# Altium footprint library Lib2408.PcbLib: 18 footprints (part 1 of 2)
Each footprint in its own frame and in the unit in brackets; x right, y up, seen from the top. Pads: shape width x height; smd on the part's side, far side on the other; paste and mask are expansions set on the pad; w line width, h text height; cw(c..) or ccw(c..) is an arc to the next point about the centre after c.
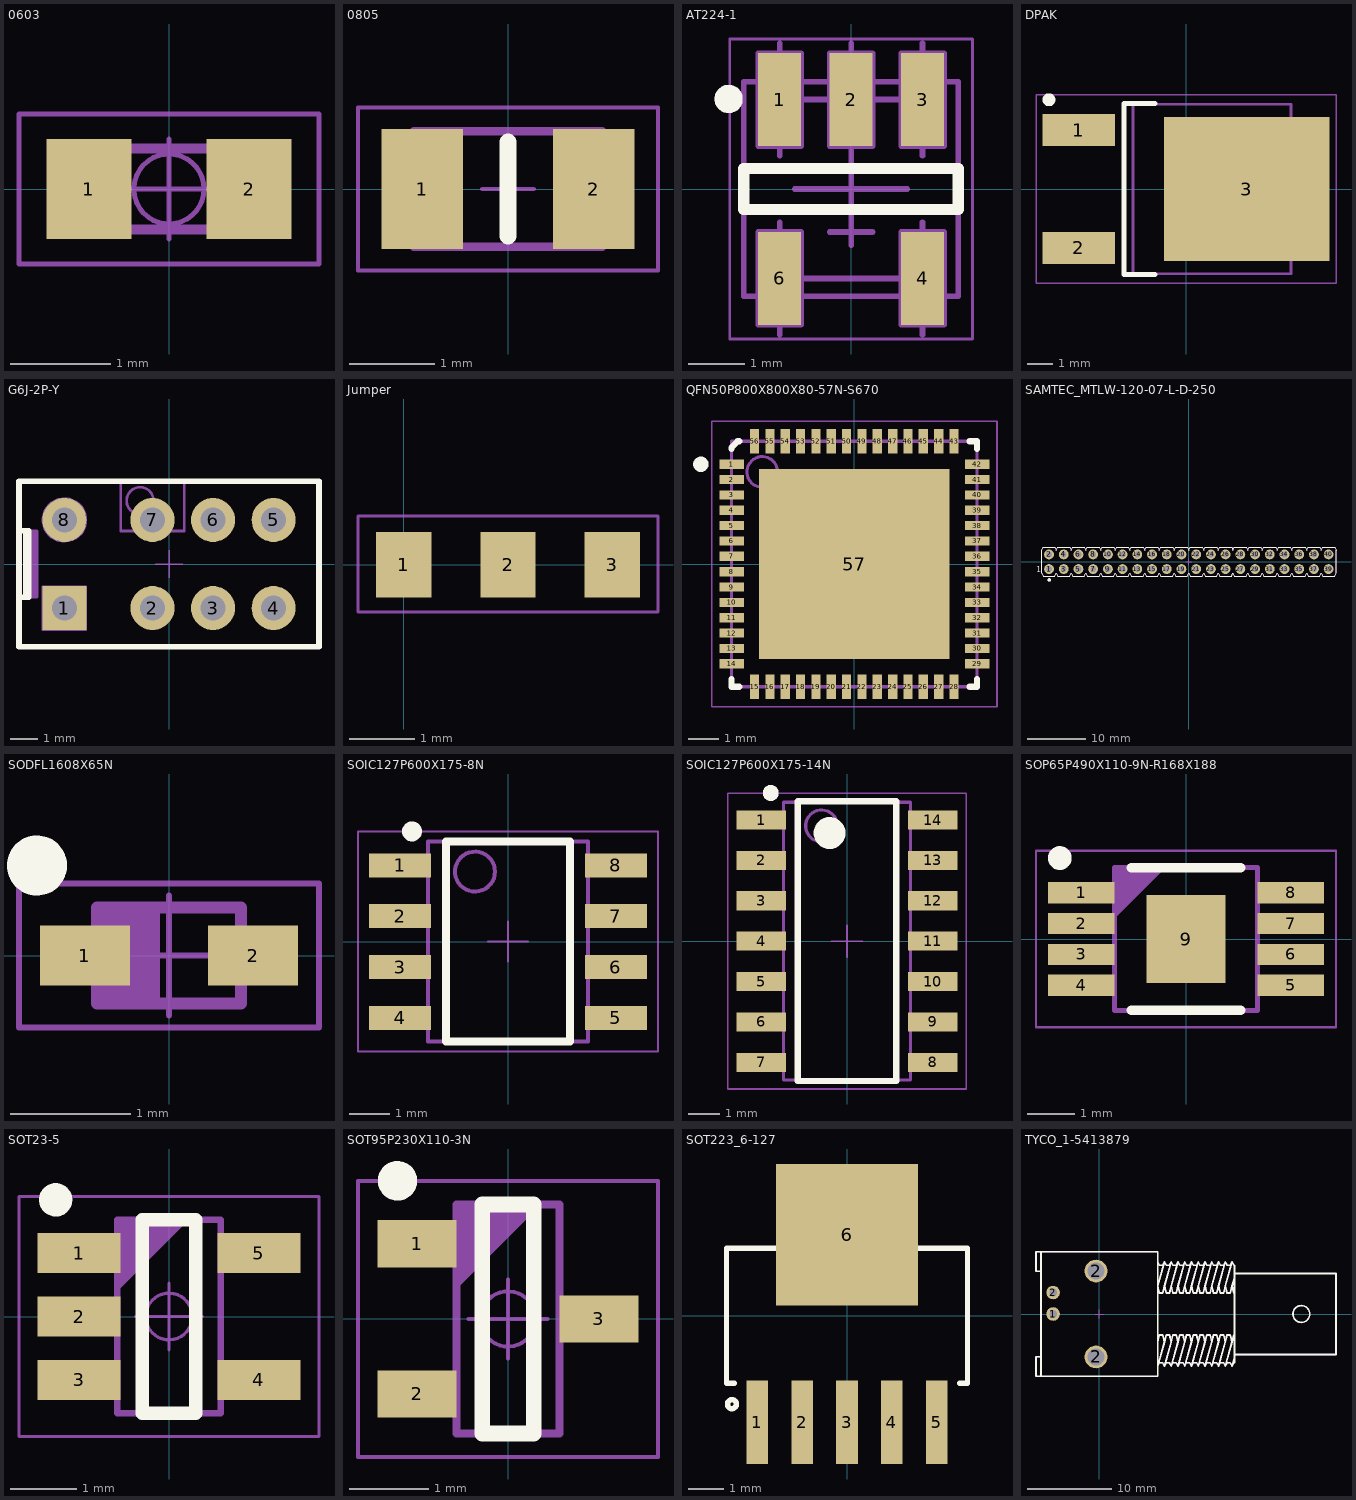
[diagram p0: the footprints below, top view; thin cyan lines are the x and y axes]

## 0603 [mm] "Chip Resistor, EIA 0603, Metric 1608, Body 1.6x0.8mm, IPC Medium Density"
height 0.6
pads (2):
  rect 0.85x1 smd: 1(-0.8,0) 2(0.8,0)
Mechanical 14:
  lines w0.1: -0.8,-0.405 -0.8,0.405 0.8,0.405 0.8,-0.405 -0.8,-0.405
Mechanical 15:
  circle w0.05: c0,0 r0.35
  lines w0.05: -0.5,0 0.5,0 ; 0,-0.5 0,0.5 ; -1.5,-0.75 -1.5,0.75 1.5,0.75 1.5,-0.75 -1.5,-0.75
3D body "RESC1608X60N.stp": height 0.6, standoff 0, extent -0.875,-0.475 0.875,0.475

## 0805 [mm] "Chip Resistor, EIA 0805, Metric 2012, Body 2.0x1.2mm, IPC Medium Density"
height 0.6
pads (2):
  rect 0.95x1.4 smd: 1(-1,0) 2(1,0)
Top Overlay:
  lines w0.2: 0,-0.55 0,0.55
Mechanical 14:
  lines w0.1: -1.1,0.675 -1.1,-0.675 1.1,-0.675 1.1,0.675 ; -1.1,0.675 1.1,0.675
Mechanical 15:
  lines w0.05: -0.3,0 0.3,0 ; 0,-0.3 0,0.3 ; -1.75,-0.95 -1.75,0.95 1.75,0.95 1.75,-0.95 -1.75,-0.95
3D body "RESC2012X60N.stp": height 0.6, standoff 0, extent -1.1,-0.675 1.1,0.675

## AT224-1 [mm] "MINI-CIRCUITS RF Transformer, Case AT224-1 - Body 3.81X3.81mm"
height 4.06
pads (5):
  rect 0.76x1.65 smd: 1(-1.27,1.59) 2(0,1.59) 3(1.27,1.59) 4(1.27,-1.59) 6(-1.27,-1.59)
Top Overlay:
  circle w0.25: c-2.175,1.6 r0.125
  lines w0.2: -1.905,-0.365 -1.905,0.365 1.905,0.365 1.905,-0.365 -1.905,-0.365
Mechanical 8:
  lines w0.1: -1.27,-2.59 -1.27,-1.59 ; -1.27,-0.59 -1.27,-1.59 ; -1.27,0.59 -1.27,1.59 ; -1.27,2.59 -1.27,1.59 ; -1,0 0,0 ; -0.38,-0.765 0.38,-0.765 ; 0,-1 0,0 ; 0,0.59 0,1.59 0,2.59 ; 0,1 0,0 ; 1,0 0,0 ; 1.27,-2.59 1.27,-1.59 1.27,-0.59 ; 1.27,0.59 1.27,1.59 1.27,2.59 ; 1.65,-1.59 -1.27,-1.59 ; 1.65,1.59 -1.27,1.59 ; -1.65,-2.415 -1.65,-0.765 -0.89,-0.765 -0.89,-2.415 -1.65,-2.415 ; -1.65,0.765 -1.65,2.415 -0.89,2.415 -0.89,0.765 -1.65,0.765 ; -0.38,0.765 -0.38,2.415 0.38,2.415 0.38,0.765 -0.38,0.765 ; 0.89,-2.415 0.89,-0.765 1.65,-0.765 1.65,-2.415 0.89,-2.415 ; 0.89,0.765 0.89,2.415 1.65,2.415 1.65,0.765 0.89,0.765
Mechanical 14:
  circle w0.25: c-2.175,1.6 r0.125
  lines w0.1: -1.625,-1.905 -1.625,-1.145 -0.915,-1.145 -0.915,-1.905 ; -1.625,1.905 -1.625,1.145 -0.915,1.145 -0.915,1.905 ; -0.355,1.905 -0.355,1.145 0.355,1.145 0.355,1.905 ; 0.915,-1.905 0.915,-1.145 1.625,-1.145 1.625,-1.905 ; 0.915,1.905 0.915,1.145 1.625,1.145 1.625,1.905 ; -1.905,-1.905 -1.905,1.905 1.905,1.905 1.905,-1.905 -1.905,-1.905
Mechanical 15:
  lines w0.05: -2.155,-2.665 -2.155,2.665 2.155,2.665 2.155,-2.665 -2.155,-2.665
3D body "XFMR_MINI-CIRCUITS_AT224-1.stp": height 4.06, standoff 0, extent -1.905,-1.905 1.905,1.905

## DPAK [mm] "TO-252AA DPAK TO, 2.28mm pitch; 2 pin,9.90mm L X 6.56mm W X 2.38mm H body, IPC Medium Density"
height 2.38
pads (3):
  rect 2.8x1.25 smd: 1(-4.15,2.28) 2(-4.15,-2.28)
  rect 6.4x5.55 smd: 3(2.35,0)
Top Overlay:
  circle w0.25: c-5.3,3.45 r0.125
  lines w0.2: -1.2,-3.3 -2.4,-3.3 -2.4,3.3 -1.2,3.3
Top Paste:
  region: 2.71,0.36 4.81,0.36 4.81,2.04 2.71,2.04
  region: -0.11,0.36 1.99,0.36 1.99,2.04 -0.11,2.04
  region: 2.71,-2.04 4.81,-2.04 4.81,-0.36 2.71,-0.36
  region: -0.11,-2.04 1.99,-2.04 1.99,-0.36 -0.11,-0.36
Mechanical 14:
  lines w0.1: 4.06,-2.668 4.354,-2.668 4.95,-2.006 4.95,2.006 4.354,2.668 4.06,2.668 ; -2.05,-3.282 -2.05,3.282 4.06,3.282 4.06,-3.282 -2.05,-3.282
Mechanical 15:
  circle w0.05: c0,0 r0.35
  lines w0.05: -0.5,0 0.5,0 ; 0,-0.5 0,0.5 ; -5.8,-3.65 -5.8,3.65 5.8,3.65 5.8,-3.65 -5.8,-3.65
3D body "TO228P990X238-3N-R640X555.stp": height 2.28, standoff 0, extent -4.992,-3.27 4.946,3.27

## G6J-2P-Y [mm] "THT Relay, Body 10.9mm x 6mm, OMRON_G6J-2P"
height 9.3
pads (8):
  rect 1.6x1.6 hole 0.9: 1(-3.8,-1.6)
  round 1.6 hole 0.9: 2(-0.6,-1.6) 3(1.6,-1.6) 4(3.8,-1.6) 5(3.8,1.6) 6(1.6,1.6) 7(-0.6,1.6) 8(-3.8,1.6)
Top Overlay:
  lines w0.2: -5.3,-1.2 -5.1,-1.2 -5.1,1.2 -5.3,1.2 ; -5.2,-1.2 -5.2,1.2 ; -5.45,-3 5.45,-3 5.45,3 -5.45,3 -5.45,-3
Mechanical 8:
  circle w0.05: c-3.8,1.6 r0.45
  circle w0.05: c-3.8,1.6 r0.8
  circle w0.05: c-3.8,-1.6 r0.45
  lines w0.05: -4.3,-1.6 -3.8,-1.6 ; -4.3,1.6 -3.8,1.6 ; -3.8,-2.1 -3.8,-1.6 ; -3.8,-1.1 -3.8,-1.6 ; -3.8,1.1 -3.8,1.6 ; -3.8,2.1 -3.8,1.6 ; -3.3,-1.6 -3.8,-1.6 ; -3.3,1.6 -3.8,1.6 ; -1.1,-1.6 -0.6,-1.6 ; -1.1,1.6 -0.6,1.6 ; -0.6,-2.1 -0.6,-1.6 ; -0.6,-1.1 -0.6,-1.6 ; -0.6,1.1 -0.6,1.6 ; -0.6,2.1 -0.6,1.6 ; -0.5,0 0,0 ; -0.1,-1.6 -0.6,-1.6 ; -0.1,1.6 -0.6,1.6 ; 0,-0.5 0,0 ; 0,0.5 0,0 ; 0.5,0 0,0 ; 1.1,-1.6 1.6,-1.6 ; 1.1,1.6 1.6,1.6 ; 1.6,-2.1 1.6,-1.6 ; 1.6,-1.1 1.6,-1.6 ; 1.6,1.1 1.6,1.6 ; 1.6,2.1 1.6,1.6 ; 2.1,-1.6 1.6,-1.6 ; 2.1,1.6 1.6,1.6 ; 3.3,-1.6 3.8,-1.6 ; 3.3,1.6 3.8,1.6 ; 3.8,-2.1 3.8,-1.6 ; 3.8,-1.1 3.8,-1.6 ; 3.8,1.1 3.8,1.6 ; 3.8,2.1 3.8,1.6 ; 4.3,-1.6 3.8,-1.6 ; 4.3,1.6 3.8,1.6 ; -4.6,-2.4 -4.6,-0.8 -3,-0.8 -3,-2.4 -4.6,-2.4
Mechanical 14:
  circle w0.1: c-1.05,2.3 r0.49
  circle w0.1: c-0.05,1.7 r0.15
  lines w0.1: -5.3,-1.2 -4.8,-1.2 -4.8,1.2 -5.3,1.2 ; -5.2,-1.2 -5.2,1.2 ; -5.1,-1.2 -5.1,1.2 ; -5,-1.2 -5,1.2 ; -4.9,-1.2 -4.9,1.2 ; -1.75,3 -1.75,1.2 0.55,1.2 0.55,3 ; -5.45,-3 5.45,-3 5.45,3 -5.45,3 -5.45,-3
3D body "REL_OMRON_G6J-2P-Y.stp": height 9.3, standoff -3.5, extent -5.45,-3 5.45,3

## Jumper [mm] "Jumper, SMD, 0805"
height 0.5
pads (3):
  rect 0.85x1 smd: 1(0,0) 2(1.6,0) 3(3.2,0)
Mechanical 15:
  lines w0.05: -0.7,-0.725 3.9,-0.725 3.9,0.75 -0.7,0.75 -0.7,-0.725

## QFN50P800X800X80-57N-S670 [mm] "QFN,0.50mm Pitch, Square; 56 pin, 8.00mm L X 8.00mm W X 0.80mm H body (6.7mm X 6.7mm thermal tab), IPC Medium Density"
height 0.8
pads (57):
  rect 0.8x0.3 smd: 1(-4,3.25) 2(-4,2.75) 3(-4,2.25) 4(-4,1.75) 5(-4,1.25) 6(-4,0.75) 7(-4,0.25) 8(-4,-0.25) 9(-4,-0.75) 10(-4,-1.25) 11(-4,-1.75) 12(-4,-2.25) 13(-4,-2.75) 14(-4,-3.25) 29(4,-3.25) 30(4,-2.75) 31(4,-2.25) 32(4,-1.75) 33(4,-1.25) 34(4,-0.75) 35(4,-0.25) 36(4,0.25) 37(4,0.75) 38(4,1.25) 39(4,1.75) 40(4,2.25) 41(4,2.75) 42(4,3.25)
  rect 0.3x0.8 smd: 15(-3.25,-4) 16(-2.75,-4) 17(-2.25,-4) 18(-1.75,-4) 19(-1.25,-4) 20(-0.75,-4) 21(-0.25,-4) 22(0.25,-4) 23(0.75,-4) 24(1.25,-4) 25(1.75,-4) 26(2.25,-4) 27(2.75,-4) 28(3.25,-4) 43(3.25,4) 44(2.75,4) 45(2.25,4) 46(1.75,4) 47(1.25,4) 48(0.75,4) 49(0.25,4) 50(-0.25,4) 51(-0.75,4) 52(-1.25,4) 53(-1.75,4) 54(-2.25,4) 55(-2.75,4) 56(-3.25,4)
  rect 6.2x6.2 smd: 57(0,0)
Top Overlay:
  circle w0.25: c-5,3.25 r0.125
  lines w0.2: -4,-3.75 -4,-4 -3.75,-4 ; -4,3.75 -4,3.8 -3.8,4 -3.75,4 ; 3.75,-4 4,-4 4,-3.75 ; 3.75,4 4,4 4,3.75
Top Paste:
  region: -2.75,-2.75 -2.75,-1.33 -1.33,-1.33 -1.33,-2.75
  region: -0.71,-2.75 -0.71,-1.33 0.71,-1.33 0.71,-2.75
  region: 1.33,-2.75 1.33,-1.33 2.75,-1.33 2.75,-2.75
  region: -2.75,-0.71 -2.75,0.71 -1.33,0.71 -1.33,-0.71
  region: -0.71,-0.71 -0.71,0.71 0.71,0.71 0.71,-0.71
  region: 1.33,-0.71 1.33,0.71 2.75,0.71 2.75,-0.71
  region: -2.75,1.33 -2.75,2.75 -1.33,2.75 -1.33,1.33
  region: -0.71,1.33 -0.71,2.75 0.71,2.75 0.71,1.33
  region: 1.33,1.33 1.33,2.75 2.75,2.75 2.75,1.33
Mechanical 14:
  circle w0.1: c-3,3 r0.5
  lines w0.1: -4,-4 -4,4 4,4 4,-4 -4,-4
Mechanical 15:
  circle w0.05: c0,0 r0.35
  lines w0.05: -0.5,0 0.5,0 ; 0,-0.5 0,0.5 ; -4.65,-4.65 -4.65,4.65 4.65,4.65 4.65,-4.65 -4.65,-4.65
3D body "QFN50P800X800X80-57N-S670.stp": height 0.8, standoff 0, extent -4,-4 4,4

## SAMTEC_MTLW-120-07-L-D-250 [mm] "40 Contacts - Pitch 2.54mm - Dual Row Through Mount Straight Header (Post Lead = 6.35mm, Tail Lead 3.05mm, Insulator 1.52mm)"
height 7.87
pads (40):
  round 1.7 hole 1: 1(-24.13,-1.27) 2(-24.13,1.27) 3(-21.59,-1.27) 4(-21.59,1.27) 5(-19.05,-1.27) 6(-19.05,1.27) 7(-16.51,-1.27) 8(-16.51,1.27) 9(-13.97,-1.27) 10(-13.97,1.27) 11(-11.43,-1.27) 12(-11.43,1.27) 13(-8.89,-1.27) 14(-8.89,1.27) 15(-6.35,-1.27) 16(-6.35,1.27) 17(-3.81,-1.27) 18(-3.81,1.27) 19(-1.27,-1.27) 20(-1.27,1.27) 21(1.27,-1.27) 22(1.27,1.27) 23(3.81,-1.27) 24(3.81,1.27) 25(6.35,-1.27) 26(6.35,1.27) 27(8.89,-1.27) 28(8.89,1.27) 29(11.43,-1.27) 30(11.43,1.27) 31(13.97,-1.27) 32(13.97,1.27) 33(16.51,-1.27) 34(16.51,1.27) 35(19.05,-1.27) 36(19.05,1.27) 37(21.59,-1.27) 38(21.59,1.27) 39(24.13,-1.27) 40(24.13,1.27)
Top Overlay:
  circle w0.3: c-24.095,-3.135 r0.15
  lines w0.2: -25.4,-2.007 -25.146,-2.515 -23.114,-2.515 -22.86,-2.007 -22.606,-2.515 -20.574,-2.515 -20.32,-2.007 -20.066,-2.515 -18.034,-2.515 -17.78,-2.007 -17.526,-2.515 -15.494,-2.515 -15.24,-2.007 -14.986,-2.515 -12.954,-2.515 -12.7,-2.007 -12.446,-2.515 -10.414,-2.515 -10.16,-2.007 -9.906,-2.515 -7.874,-2.515 -7.62,-2.007 -7.366,-2.515 -5.334,-2.515 -5.08,-2.007 -4.826,-2.515 -2.794,-2.515 -2.54,-2.007 -2.286,-2.515 -0.254,-2.515 0,-2.007 0.254,-2.515 2.286,-2.515 2.54,-2.007 2.794,-2.515 4.826,-2.515 5.08,-2.007 5.334,-2.515 7.366,-2.515 7.62,-2.007 7.874,-2.515 9.906,-2.515 10.16,-2.007 10.414,-2.515 12.446,-2.515 12.7,-2.007 12.954,-2.515 14.986,-2.515 15.24,-2.007 15.494,-2.515 17.526,-2.515 17.78,-2.007 18.034,-2.515 20.066,-2.515 20.32,-2.007 20.574,-2.515 22.606,-2.515 22.86,-2.007 23.114,-2.515 25.146,-2.515 25.4,-2.007 25.4,2.007 25.146,2.515 23.114,2.515 22.86,2.007 22.606,2.515 20.574,2.515 20.32,2.007 20.066,2.515 18.034,2.515 17.78,2.007 17.526,2.515 15.494,2.515 15.24,2.007 14.986,2.515 12.954,2.515 12.7,2.007 12.446,2.515 10.414,2.515 10.16,2.007 9.906,2.515 7.874,2.515 7.62,2.007 7.366,2.515 5.334,2.515 5.08,2.007 4.826,2.515 2.794,2.515 2.54,2.007 2.286,2.515 0.254,2.515 0,2.007 -0.254,2.515 -2.286,2.515 -2.54,2.007 -2.794,2.515 -4.826,2.515 -5.08,2.007 -5.334,2.515 -7.366,2.515 -7.62,2.007 -7.874,2.515 -9.906,2.515 -10.16,2.007 -10.414,2.515 -12.446,2.515 -12.7,2.007 -12.954,2.515 -14.986,2.515 -15.24,2.007 -15.494,2.515 -17.526,2.515 -17.78,2.007 -18.034,2.515 -20.066,2.515 -20.32,2.007 -20.574,2.515 -22.606,2.515 -22.86,2.007 -23.114,2.515 -25.146,2.515 -25.4,2.007 -25.4,-2.007
  text "1" at -26.377,-1.768 h1
Mechanical 8:
  drawing of 164 lines, arcs and shapes, not listed
Mechanical 14:
  drawing of 283 lines, arcs and shapes, not listed
  text "1" at -26.377,-1.768 h1
3D body "SAMTEC_MTLW-120-07-L-D-250.stp": height 7.87, standoff -3.05, extent -25.4,-2.514 25.4,2.515

## SODFL1608X65N [mm] "Ultra Small Outline Diode Flat Lead (SOD-523), Body; 1.2mm L X 0.8mm W X 0.65mm H, IPC Medium Density"
height 0.65
pads (2):
  rect 0.75x0.5 smd: 1(-0.7,0) 2(0.7,0)
Top Overlay:
  circle w0.25: c-1.1,0.75 r0.125
Mechanical 14:
  lines w0.1: -0.5,-0.4 -0.5,0.4 ; -0.425,-0.4 -0.425,0.4 ; -0.35,-0.4 -0.35,0.4 ; -0.275,-0.4 -0.275,0.4 ; -0.2,0.4 -0.2,-0.4 -0.175,-0.4 ; -0.125,-0.4 -0.125,0.4 ; -0.6,-0.4 -0.6,0.4 0.6,0.4 0.6,-0.4 -0.6,-0.4
Mechanical 15:
  lines w0.05: -0.5,0 0.5,0 ; 0,-0.5 0,0.5 ; -1.25,-0.6 -1.25,0.6 1.25,0.6 1.25,-0.6 -1.25,-0.6
3D body "SODFL1608X65N.stp": height 0.65, standoff 0, extent -0.825,-0.425 0.825,0.425

## SOIC127P600X175-8N [mm] "SOIC 8, Pitch 1.27mm - Body 4x5mm, IPC Medium Density"
height 1.75
pads (8):
  rect 1.55x0.6 smd: 1(-2.7,1.905) 2(-2.7,0.635) 3(-2.7,-0.635) 4(-2.7,-1.905) 5(2.7,-1.905) 6(2.7,-0.635) 7(2.7,0.635) 8(2.7,1.905)
Top Overlay:
  circle w0.25: c-2.4,2.755 r0.125
  lines w0.2: -1.55,-2.5 -1.55,2.5 1.55,2.5 1.55,-2.5 -1.55,-2.5
Mechanical 14:
  circle w0.1: c-0.825,1.75 r0.5
  lines w0.1: -2,-2.5 -2,2.5 2,2.5 2,-2.5 -2,-2.5
Mechanical 15:
  lines w0.05: -0.5,0 0.5,0 ; 0,-0.5 0,0.5 ; -3.75,-2.75 -3.75,2.75 3.75,2.75 3.75,-2.75 -3.75,-2.75
3D body "SOIC127P600X175-8N.stp": height 1.75, standoff 0, extent -3.1,-2.5 3.1,2.5

## SOIC127P600X175-14N [mm] "SOIC 14, Pitch 1.27mm - Body 4x8.75mm, IPC Medium Density"
height 1.75
pads (14):
  rect 1.55x0.6 smd: 1(-2.7,3.81) 2(-2.7,2.54) 3(-2.7,1.27) 4(-2.7,0) 5(-2.7,-1.27) 6(-2.7,-2.54) 7(-2.7,-3.81) 8(2.7,-3.81) 9(2.7,-2.54) 10(2.7,-1.27) 11(2.7,0) 12(2.7,1.27) 13(2.7,2.54) 14(2.7,3.81)
Top Overlay:
  circle w0.25: c-2.4,4.66 r0.125
  circle w0.5: c-0.55,3.4 r0.25
  lines w0.2: -1.55,-4.4 1.55,-4.4 1.55,4.4 -1.55,4.4 -1.55,-4.4
Mechanical 14:
  circle w0.1: c-0.8,3.625 r0.5
  lines w0.1: -2,-4.37 2,-4.37 2,4.37 -2,4.37 -2,-4.37
Mechanical 15:
  lines w0.05: -0.5,0 0.5,0 ; 0,-0.5 0,0.5 ; -3.75,-4.65 3.75,-4.65 3.75,4.65 -3.75,4.65 -3.75,-4.65
3D body "SOIC127P600X175-14N.stp": height 1.75, standoff 0, extent -3.1,-4.375 3.1,4.375

## SOP65P490X110-9N-R168X188 [mm] "SOP, 0.65mm Pitch; 8 Pin, 3.00mm W X 3.00mm L X 1.10mm H body, (w/Thermal Tab 1.68X 1.88mm), IPC Medium Density"
height 1.1
pads (9):
  rect 1.4x0.45 smd: 1(-2.2,0.975) 2(-2.2,0.325) 3(-2.2,-0.325) 4(-2.2,-0.975) 5(2.2,-0.975) 6(2.2,-0.325) 7(2.2,0.325) 8(2.2,0.975)
  rect 1.65x1.85 smd: 9(0,0)
Top Overlay:
  circle w0.25: c-2.65,1.7 r0.125
  lines w0.2: -1.15,-1.5 1.15,-1.5 ; -1.15,1.5 1.15,1.5
Mechanical 14:
  lines w0.1: -1.5,0.5 -0.5,1.5 ; -1.5,0.6 -0.6,1.5 ; -1.5,0.7 -0.7,1.5 ; -1.5,0.8 -0.8,1.5 ; -1.5,0.9 -0.9,1.5 ; -1.5,1 -1,1.5 ; -1.5,1.1 -1.1,1.5 ; -1.5,1.2 -1.2,1.5 ; -1.5,1.3 -1.3,1.5 ; -1.5,1.4 -1.4,1.5 ; -1.5,-1.5 -1.5,1.5 1.5,1.5 1.5,-1.5 -1.5,-1.5
Mechanical 15:
  circle w0.05: c0,0 r0.35
  lines w0.05: -0.5,0 0.5,0 ; 0,-0.5 0,0.5 ; -3.15,-1.85 3.15,-1.85 3.15,1.85 -3.15,1.85 -3.15,-1.85
3D body "SOP65P490X110-9N-R168X188.stp": height 1.1, standoff 0, extent -2.45,-1.55 2.45,1.55

## SOT23-5 [mm] "SOT, 0.95mm Pitch; 5 Pin,1.55mm W X 2.90mm L X 1.45mm H body, IPC Medium Density"
height 1.45
pads (5):
  rect 1.25x0.6 smd: 1(-1.35,0.95) 2(-1.35,0) 3(-1.35,-0.95) 4(1.35,-0.95) 5(1.35,0.95)
Top Overlay:
  circle w0.25: c-1.7,1.75 r0.125
  lines w0.2: -0.4,-1.45 -0.4,1.45 0.4,1.45 0.4,-1.45 -0.4,-1.45
Mechanical 14:
  lines w0.1: -0.775,0.45 0.225,1.45 ; -0.775,0.55 0.125,1.45 ; -0.775,0.65 0.025,1.45 ; -0.775,0.75 -0.075,1.45 ; -0.775,0.85 -0.175,1.45 ; -0.775,0.95 -0.275,1.45 ; -0.775,1.05 -0.375,1.45 ; -0.775,1.15 -0.475,1.45 ; -0.775,1.25 -0.575,1.45 ; -0.775,1.35 -0.675,1.45 ; -0.775,-1.45 -0.775,1.45 0.775,1.45 0.775,-1.45 -0.775,-1.45
Mechanical 15:
  circle w0.05: c0,0 r0.35
  lines w0.05: -0.5,0 0.5,0 ; 0,-0.5 0,0.5 ; -2.25,-1.8 -2.25,1.8 2.25,1.8 2.25,-1.8 -2.25,-1.8
3D body "SOT95P270X145-5N.stp": height 1.45, standoff 0.01, extent -1.351,-1.45 1.351,1.45

## SOT95P230X110-3N [mm] "SOT23, 3 pin, Pitch 0.95mm - 1.3mm W X 2.9mm L X 1.1mm H, IPC Medium Density"
height 1.1
pads (3):
  rect 1x0.6 smd: 1(-1.15,0.95) 2(-1.15,-0.95) 3(1.15,0)
Top Overlay:
  circle w0.25: c-1.4,1.75 r0.125
  lines w0.2: -0.325,-1.45 -0.325,1.45 0.325,1.45 0.325,-1.45 -0.325,-1.45
Mechanical 14:
  lines w0.1: -0.65,0.45 0.35,1.45 ; -0.65,0.55 0.25,1.45 ; -0.65,0.65 0.15,1.45 ; -0.65,0.75 0.05,1.45 ; -0.65,0.85 -0.05,1.45 ; -0.65,0.95 -0.15,1.45 ; -0.65,1.05 -0.25,1.45 ; -0.65,1.15 -0.35,1.45 ; -0.65,1.25 -0.45,1.45 ; -0.65,1.35 -0.55,1.45 ; -0.65,-1.45 -0.65,1.45 0.65,1.45 0.65,-1.45 -0.65,-1.45
Mechanical 15:
  circle w0.05: c0,0 r0.35
  lines w0.05: -0.5,0 0.5,0 ; 0,-0.5 0,0.5 ; -1.9,-1.75 -1.9,1.75 1.9,1.75 1.9,-1.75 -1.9,-1.75
3D body "SOT95P230X110-3N.stp": height 1.1, standoff 0.01, extent -1.082,-1.5 1.25,1.5

## SOT223_6-127 [mil]
pads (6):
  rect 24x93 smd paste+0 mask+0: 1(-100,-118.5) 2(-50,-118.5) 3(0,-118.5) 4(50,-118.5) 5(100,-118.5)
  rect 157.48x157.48 smd: 6(0,90)
Top Overlay:
  circle w6: c-127.95,-98.43 r5
  lines w6: -125.1,-75 -134,-75 -134,75 -75.1,75 ; 75.1,75 134,75 134,-75 125.1,-75
Top Paste:
  region: 62,72 62,165 -62,165 -62,72
Mechanical 13:
  lines w1: -110,-143 -90,-143 ; -60,-143 -40,-143 ; -10,-143 10,-143 ; 40,-143 60,-143 ; 90,-143 110,-143
3D body "DCQ6_TEX-M.step": height 71.1, standoff 0, extent -129.01,-142.99 129.02,143
3D body: height 10, standoff 0, extent 0,0 10,10

## TYCO_1-5413879 [mm] "50 Ohms  BNC Elbow PCB Socket With Mounting Posts"
height 13.16
pads (4):
  round 1.6 hole 0.9: 1(-5.48,0) 2(-5.48,2.54)
  round 2.7 hole 2: 2(-0.4,-5.08) 2(-0.4,5.08)
Top Overlay:
  drawing of 177 lines, arcs and shapes, not listed
Mechanical 8:
  lines w0.1: -5.98,0 -5.48,0 ; -5.98,2.54 -5.48,2.54 ; -5.48,-0.5 -5.48,0 ; -5.48,0.5 -5.48,0 ; -5.48,2.04 -5.48,2.54 ; -5.48,3.04 -5.48,2.54 ; -4.98,0 -5.48,0 ; -4.98,2.54 -5.48,2.54 ; -0.9,-5.08 -0.4,-5.08 ; -0.9,5.08 -0.4,5.08 ; -0.5,0 0,0 ; -0.4,-5.58 -0.4,-5.08 ; -0.4,-4.58 -0.4,-5.08 ; -0.4,4.58 -0.4,5.08 ; -0.4,5.58 -0.4,5.08 ; 0,-0.5 0,0 ; 0,0.5 0,0 ; 0.1,-5.08 -0.4,-5.08 ; 0.1,5.08 -0.4,5.08 ; 0.5,0 0,0
Mechanical 14:
  drawing of 177 lines, arcs and shapes, not listed
3D body "TYCO_1-1337542-0.stp": height 13.16, standoff -4.3, extent -7.5,-7.35 28,7.35